# Altium footprint library hmc5883.PcbLib: 1 footprints
Each footprint in its own frame and in the unit in brackets; x right, y up, seen from the top. Pads: shape width x height; smd on the part's side, far side on the other; paste and mask are expansions set on the pad; w line width, h text height; cw(c..) or ccw(c..) is an arc to the next point about the centre after c.
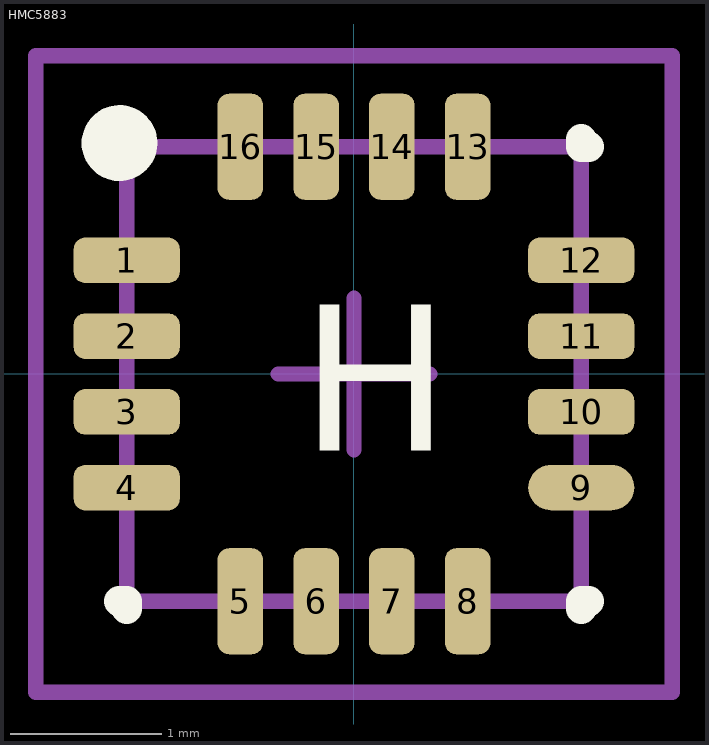
[diagram p0: the footprint, top view; thin cyan lines are the x and y axes]

## HMC5883 [mm] "QFN, 16-Leads, Body 3.0x3.0mm (max), Pitch 0.50mm, IPC Medium Density"
height 0.9
pads (16):
  rrect50% 0.7x0.3 smd: 1(-1.5,0.75) 2(-1.5,0.25) 3(-1.5,-0.25) 4(-1.5,-0.75) 10(1.5,-0.25) 11(1.5,0.25) 12(1.5,0.75)
  rrect50% 0.3x0.7 smd: 5(-0.75,-1.5) 6(-0.25,-1.5) 7(0.25,-1.5) 8(0.75,-1.5) 13(0.75,1.5) 14(0.25,1.5) 15(-0.25,1.5) 16(-0.75,1.5)
  oval 0.7x0.3 smd: 9(1.5,-0.75)
Top Overlay:
  circle w0.25: c-1.547,1.524 r0.125
  lines w0.2: -1.55,-1.5 -1.5,-1.5 -1.5,-1.55 ; -1.55,1.5 -1.5,1.5 -1.5,1.55 ; 1.5,-1.55 1.5,-1.5 1.55,-1.5 ; 1.5,1.55 1.5,1.5 1.55,1.5
  text "H" at -0.356,-0.508 h1
Mechanical 13:
  lines w0.1: -1.5,-1.5 1.5,-1.5 1.5,1.5 -1.5,1.5 -1.5,-1.5
Mechanical 15:
  lines w0.1: -0.5,0 0.5,0 ; 0,-0.5 0,0.5 ; -2.1,-2.1 2.1,-2.1 2.1,2.1 -2.1,2.1 -2.1,-2.1